# EAGLE library part MMC5883MA-B (library MMC5883MA-B)
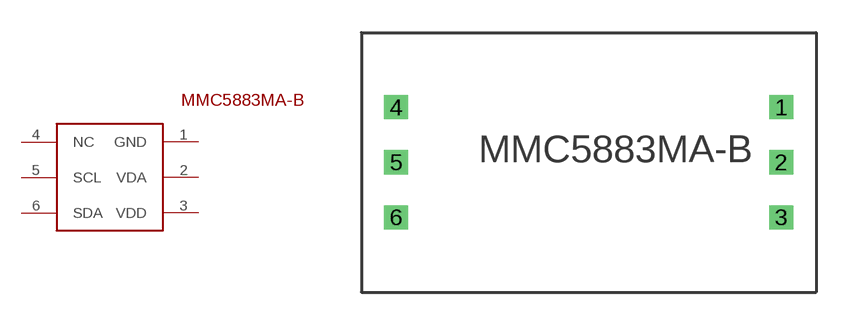
[diagram p0: symbol with the pads of MMC5883MA-B; footprint MMC5883MA-B]

Designator prefix -

## MMC5883MA-B  [MMC5883MA-B]
1  GND
2  VDA
3  VDD
4  NC
5  SCL
6  SDA

## Footprint MMC5883MA-B (pad centres in mm)
drill 0.6 square: 1 8.89,2.54; 2 8.89,0; 3 8.89,-2.54; 4 -8.89,2.54; 5 -8.89,0; 6 -8.89,-2.54